# Altium footprint library TJ-S1706SW6TGLC6B-A5.PcbLib: 1 footprints
Each footprint in its own frame and in the unit in brackets; x right, y up, seen from the top. Pads: shape width x height; smd on the part's side, far side on the other; paste and mask are expansions set on the pad; w line width, h text height; cw(c..) or ccw(c..) is an arc to the next point about the centre after c.
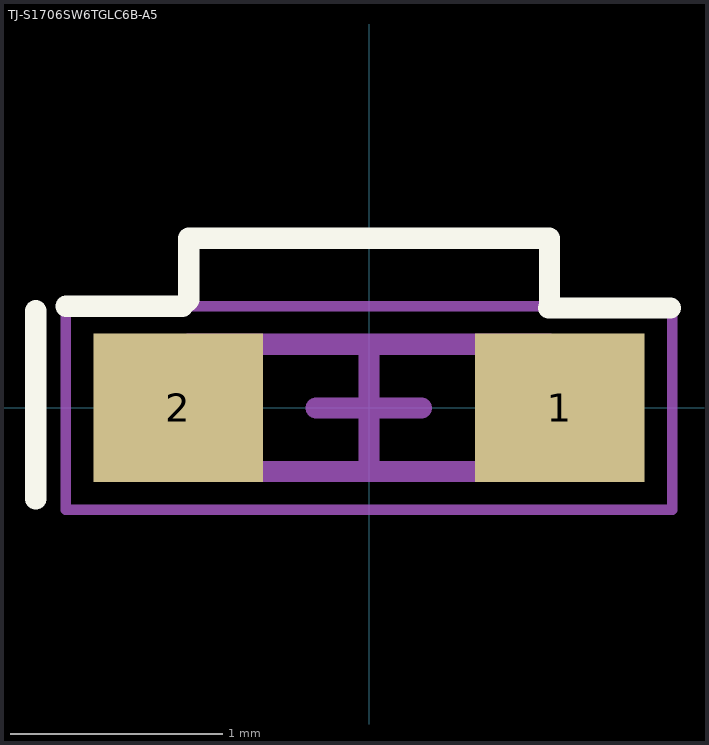
[diagram p0: the footprint, top view; thin cyan lines are the x and y axes]

## TJ-S1706SW6TGLC6B-A5 [mm]
pads (2):
  rect 0.8x0.7 smd: 1(0.9,0) 2(-0.9,0)
Top Overlay:
  lines w0.1: -1.572,-0.43 -1.572,0.459 ; -1.43,0.48 -0.88,0.48 -0.85,0.51 -0.85,0.8 0.85,0.8 0.851,0.799 0.851,0.476 0.847,0.472 1.422,0.472
Top 3D Body:
  lines w0.1: -0.85,-0.3 -0.85,0.3 0.85,0.3 0.85,-0.3 -0.85,-0.3
Top Courtyard:
  lines w0.05: -1.43,-0.48 -1.43,0.48 1.43,0.48 1.43,-0.48 -1.43,-0.48
  lines w0.1: -0.249,0 0.247,0 ; 0,-0.3 0,0.3
3D body "led0603_RED.stp": height 0.6, standoff 0, extent -0.85,-0.3 0.85,0.8